# Altium footprint library Connector-PH-2.0.PcbLib: 2 footprints
Each footprint in its own frame and in the unit in brackets; x right, y up, seen from the top. Pads: shape width x height; smd on the part's side, far side on the other; paste and mask are expansions set on the pad; w line width, h text height; cw(c..) or ccw(c..) is an arc to the next point about the centre after c.
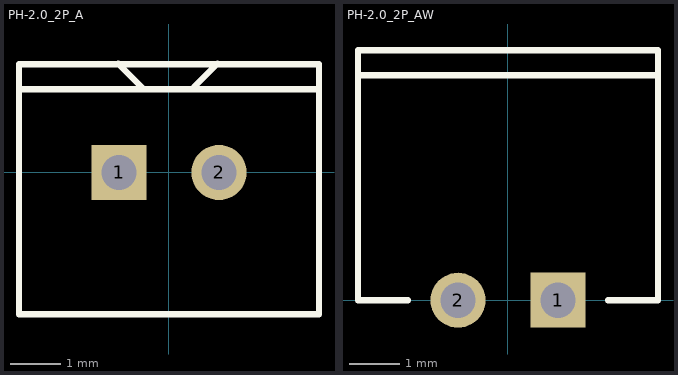
[diagram p0: the footprints below, top view; thin cyan lines are the x and y axes]

## PH-2.0_2P_A [mm]
pads (2):
  rect 1.1x1.1 hole 0.7: 1(-1,0)
  round 1.1 hole 0.7: 2(1,0)
Top Overlay:
  lines w0.127: -3,1.168 -3,2.168 3,2.168 3,1.168 ; -1.013,2.172 -0.517,1.676 ; 0.499,1.702 0.969,2.172 ; -3,-2.832 -3,1.668 3,1.668 3,-2.832 2,-2.832 -3,-2.832

## PH-2.0_2P_AW [mm]
pads (2):
  rect 1.1x1.1 hole 0.7: 1(1,0)
  round 1.1 hole 0.7: 2(-1,0)
Top Overlay:
  lines w0.127: -3,4 -3,5 3,5 3,4 ; -2,0 -3,0 -3,4.5 3,4.5 3,0 2,0